# EAGLE library part CARTSLOT-DOL-17 (library arcadetv)
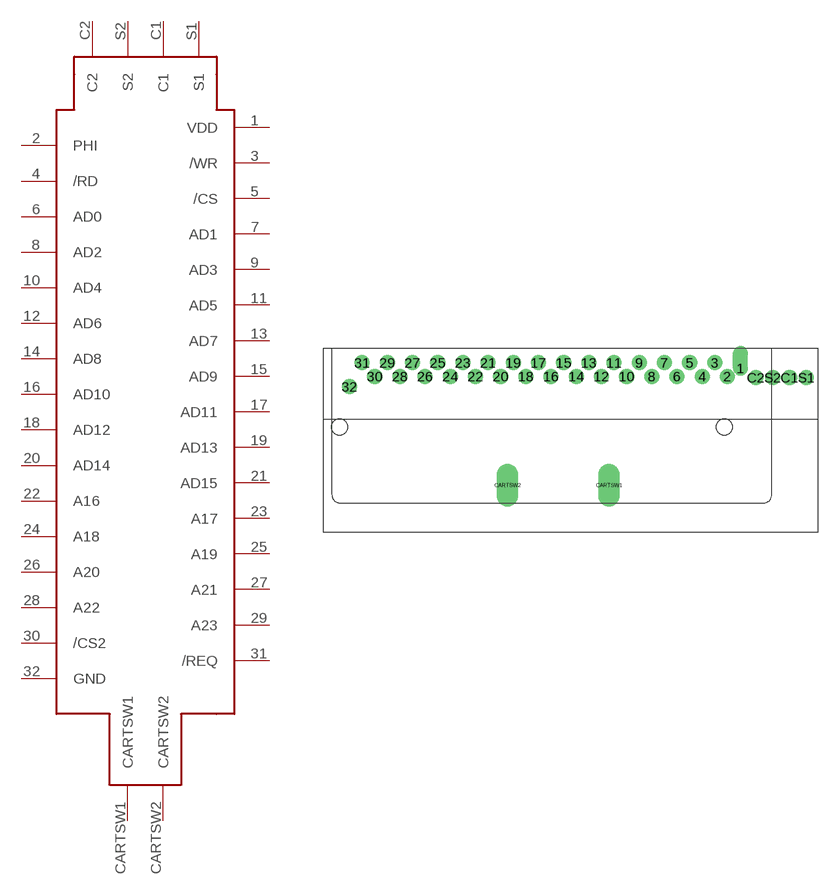
[diagram p13: symbol with the pads of CARTSLOT-DOL-17; footprint CARTSLOT-DOL-17]

Designator prefix -

## CARTSLOT-DOL-17  [CARTSLOT-DOL-17]
1  VDD
2  PHI
3  /WR
4  /RD
5  /CS
6  AD0
7  AD1
8  AD2
9  AD3
10  AD4
11  AD5
12  AD6
13  AD7
14  AD8
15  AD9
16  AD10
17  AD11
18  AD12
19  AD13
20  AD14
21  AD15
22  A16
23  A17
24  A18
25  A19
26  A20
27  A21
28  A22
29  A23
30  /CS2
31  /REQ
32  GND
C1  C1
C2  C2
CARTSW1  CARTSW1
CARTSW2  CARTSW2
S1  S1
S2  S2

## Footprint CARTSLOT-DOL-17 (pad centres in mm)
drill 1.2 pad 1.422 offset: 1 45.122,-0.653
drill 1.2: 2 43.558,-1.629; 3 42.056,0; 4 40.554,-1.629; 5 39.052,0; 6 37.55,-1.629; 7 36.048,0; 8 34.546,-1.629; 9 33.044,0; 10 31.542,-1.629; 11 30.04,0; 12 28.538,-1.629; 13 27.036,0; 14 25.534,-1.629; 15 24.032,0; 16 22.53,-1.629; 17 21.028,0; 18 19.526,-1.629; 19 18.024,0; 20 16.522,-1.629; 21 15.02,0; 22 13.518,-1.629; 23 12.016,0; 24 10.514,-1.629; 25 9.012,0; 26 7.51,-1.629; 27 6.008,0; 28 4.506,-1.629; 29 3.004,0; 30 1.502,-1.629; 31 0,0; 32 -1.513,-2.859; C1 50.982,-1.77; C2 46.964,-1.77; S1 52.991,-1.77; S2 48.973,-1.77
drill 1.7 long: CARTSW1 29.439,-14.599; CARTSW2 17.323,-14.599
hole 1.9 at 43.204,-7.675
hole 1.9 at -2.719,-7.675